# Altium schematic symbol library BB-HEADER-P13-P24.SchLib: 1 symbol
Pins are listed as number, name and electrical type; pins without a type are passive.

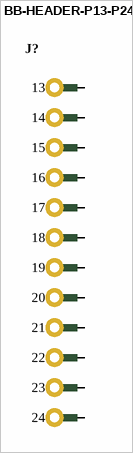
[diagram p0: symbol BB-HEADER-P13-P24]

## BB-HEADER-P13-P24
designator J?  (value not drawn)
BB Header, Vertical, Male, 0.1", 2.54mm, P13-P24
pins: 13, 14, 15, 16, 17, 18, 19, 20, 21, 22, 23, 24